# Altium schematic symbol library SchematicLib.SchLib: 9 symbols
Pins are listed as number, name and electrical type; pins without a type are passive.

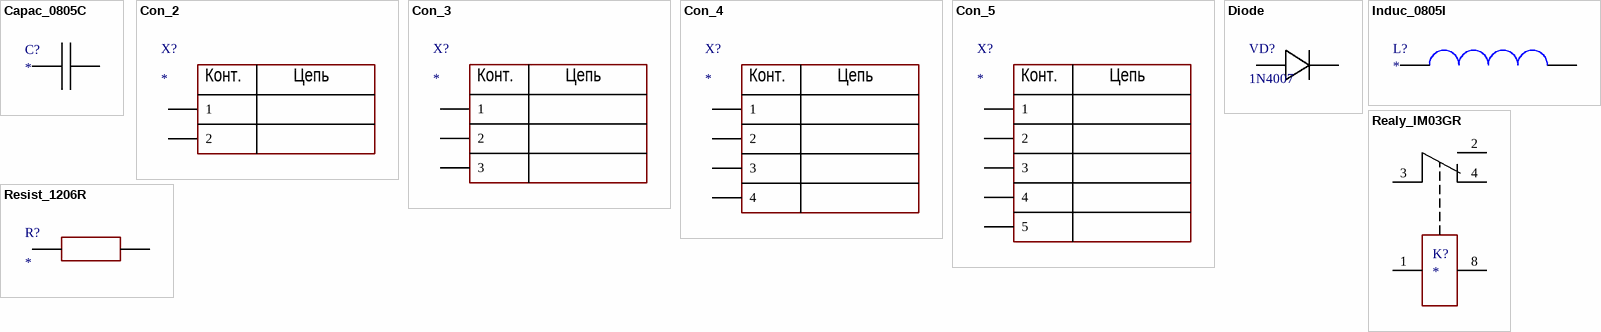
[diagram p0: symbols Capac_0805C to Resist_1206R]

## Capac_0805C
designator C?
Kind: Capacitor; Href: *; Manufacturer: *; Value: *; PartNumber: *
footprint CAPAC_0805C
pins: 0, 1

## Con_2
designator X?
Kind: Connector; Manufacturer: *; PartNumber: *; Href: *
footprint CON_6PCV-02-006
pins: 1, 2
text: Конт.; Цепь

## Con_3
designator X?
Kind: Connector; Manufacturer: *; PartNumber: *; Href: *
footprint CON_6PCV-03-006
pins: 1, 2, 3 (power)
text: Конт.; Цепь

## Con_4
designator X?
Kind: Connector; Manufacturer: *; PartNumber: *; Href: *
footprint CON_6pcv-04-006
footprint CON_PLS_4
pins: 1, 2, 3 (power), 4 (power)
text: Конт.; Цепь

## Con_5
designator X?
Kind: Connector; Manufacturer: *; Href: *; PartNumber: *
footprint CON_PLS_5
pins: 1, 2, 3 (power), 4 (power), 5 (power)
text: Конт.; Цепь

## Diode
designator VD?, comment 1N4007
Kind: Diode; Manufacturer: *; PartNumber: 1N4007; Href: *
footprint DIODE_DO-41
pins: 0, 1

## Induc_0805I
designator L?
Kind: Inductor; Value: *; PartNumber: *; Manufacturer: *; Href: *
footprint INDUCTOR_6x8
pins: 0, 1

## Realy_IM03GR
designator K?
Kind: Relay; Href: *; PartNumber: *; Manufacturer: *
footprint RELAY_IM03GR
pins: 1, 2, 3 3(6), 4, 8

## Resist_1206R
designator R?
Kind: Resistor; Value: *; Manufacturer: *; PartNumber: *; Href: *
footprint Resist_1206R
pins: 0, 1